# Altium schematic symbol library DAC124s085.SchLib: 1 symbol
Pins are listed as number, name and electrical type; pins without a type are passive.

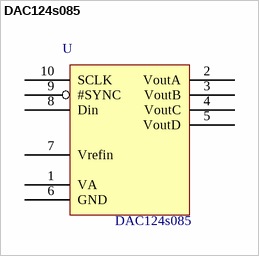
[diagram p0: symbol DAC124s085]

## DAC124s085
designator U  value DAC124s085  (hidden comment: *)
Manufacturer: Texas Instruments; Manufacturer Code: DAC124s085CIMM/NOPB; Farnell Code: 1559245; Unit Price: 7,61 €
footprint MSOP10
pins: 1 VA, 2 VoutA, 3 VoutB, 4 VoutC, 5 VoutD, 6 GND, 7 Vrefin, 8 Din, 9 #SYNC, 10 SCLK